# EAGLE library part LM358 (library STEMTera)
LM358 OPAMP
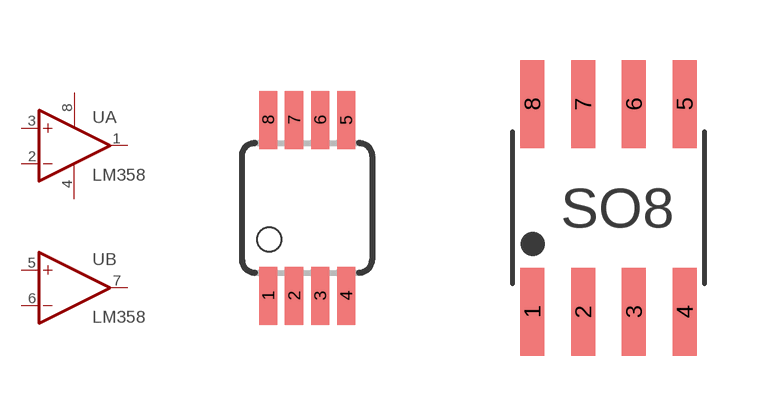
[diagram p21: symbol with the pads of VSSOP-8; footprints VSSOP-8, SOIC08_3.8MM]

Designator prefix -; gates G$1=POWER+- A=OPAMP B=OPAMP

## LM358-VSSOP8 (DESCRIPTION: IC OPAMP GP 1MHZ RRO 8VSSOP)  [VSSOP-8]
1  A:OUT  out
2  A:-IN  in
3  A:+IN  in
4  G$1:V-  pwr
5  B:+IN  in
6  B:-IN  in
7  B:OUT  out
8  G$1:V+  pwr

## LM358-SO8 (DESCRIPTION: IC OPAMP GP 1.3MHZ RRO 8SO)  [SOIC08_3.8MM]
Pads as for VSSOP-8

## Footprint VSSOP-8 (pad centres in mm)
VSSOP-8 (S-PDSO-G8)
smd 0.45 x 1.45: 1 -0.976,-2.2; 2 -0.326,-2.2; 3 0.324,-2.2; 4 0.974,-2.2; 5 0.974,2.2; 6 0.324,2.2; 7 -0.326,2.2; 8 -0.976,2.2

## Footprint SOIC08_3.8MM (pad centres in mm)
SOIC8 3.8mm Body
smd 0.6 x 2.2: 1 -1.905,-2.6; 2 -0.635,-2.6; 3 0.635,-2.6; 4 1.905,-2.6; 5 1.905,2.6; 6 0.635,2.6; 7 -0.635,2.6; 8 -1.905,2.6